# Altium schematic symbol library MyLibrary.SchLib: 71 symbols
Pins are listed as number, name and electrical type; pins without a type are passive.

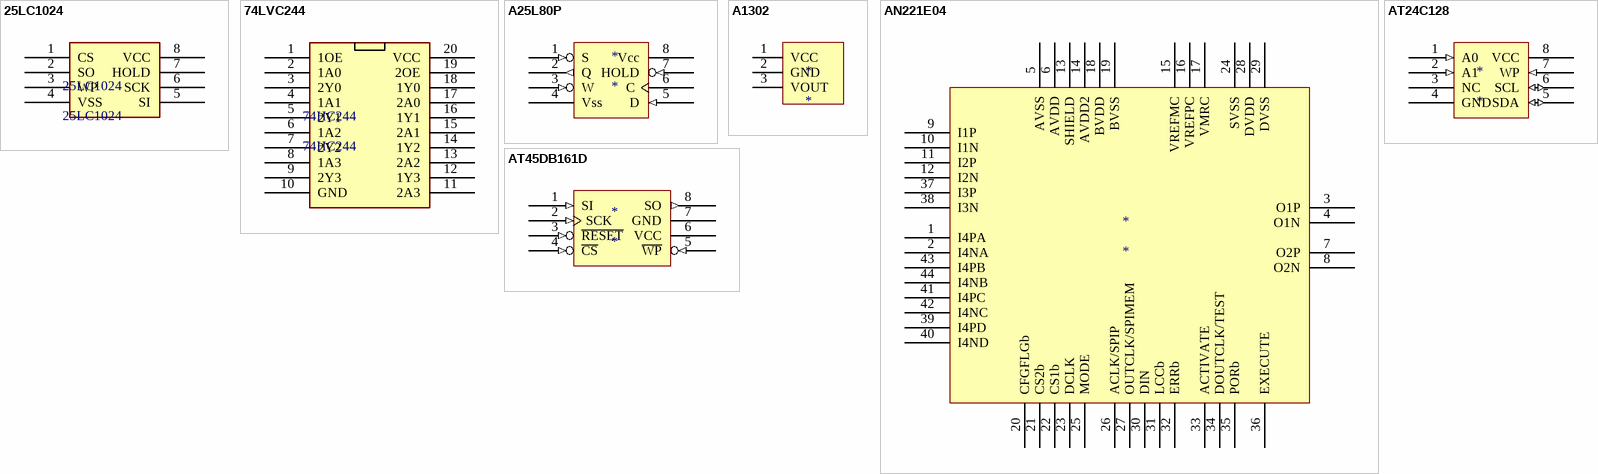
[diagram p0: symbols 25LC1024 to AT45DB161D]

## 25LC1024
designator 25LC1024
pins: 1 CS, 2 SO, 3 WP, 4 VSS, 5 SI, 6 SCK, 7 HOLD, 8 VCC

## 74LVC244
designator 74HC244, comment 74HC244
pins: 1 1OE, 2 1A0, 3 2Y0, 4 1A1, 5 2Y1, 6 1A2, 7 2Y2, 8 1A3, 9 2Y3, 10 GND, 11 2A3, 12 1Y3, 13 2A2, 14 1Y2, 15 2A1, 16 1Y1, 17 2A0, 18 1Y0, 19 2OE, 20 VCC

## A25L80P
designator *
footprint DIP-P8/E10
pins: 1 S (in), 2 Q (out), 3 W (in), 4 Vss (power), 5 D (in), 6 C, 7 HOLD (in), 8 Vcc (power)

## A1302
designator *
footprint A1302_UA_3Pin SIP
pins: 1 VCC, 2 GND (power), 3 VOUT (power)

## AN221E04
designator *
footprint QFP80P1320X1320X245-44N (QFP, 44-Leads, Body 13.2x13.2mm (max), Pitch 0.80mm, IPC Medium Density)
pins: 1 I4PA (power), 2 I4NA (power), 3 O1P (power), 4 O1N (power), 5 AVSS (power), 6 AVDD (power), 7 O2P (power), 8 O2N (power), 9 I1P (power), 10 I1N (power), 11 I2P (power), 12 I2N (power), 13 SHIELD (power), 14 AVDD2 (power), 15 VREFMC (power), 16 VREFPC (power), 17 VMRC (power), 18 BVDD (power), 19 BVSS (power), 20 CFGFLGb (power), 21 CS2b (power), 22 CS1b (power), 23 DCLK (power), 24 SVSS (power), 25 MODE (power), 26 ACLK/SPIP (power), 27 OUTCLK/SPIMEM (power), 28 DVDD (power), 29 DVSS (power), 30 DIN (power), 31 LCCb (power), 32 ERRb (power), 33 ACTIVATE (power), 34 DOUTCLK/TEST (power), 35 PORb (power), 36 EXECUTE (power), 37 I3P (power), 38 I3N (power), 39 I4PD (power), 40 I4ND (power), 41 I4PC (power), 42 I4NC (power), 43 I4PB (power), 44 I4NB (power)

## AT24C128
designator *
footprint DIP-P8/E10
pins: 1 A0 (in), 2 A1 (in), 3 NC (power), 4 GND (power), 5 SDA (io), 6 SCL (io), 7 WP (in), 8 VCC (power)

## AT45DB161D
designator *
footprint 8S1_L (8-Pin Small Outline Integrated Circuit 1.27 mm Pitch, IPC High Density)
pins: 1 SI (in), 2 SCK (in), 3 ~{RESET} (in), 4 ~{CS} (in), 5 ~{WP} (in), 6 VCC (power), 7 GND (power), 8 SO (out)

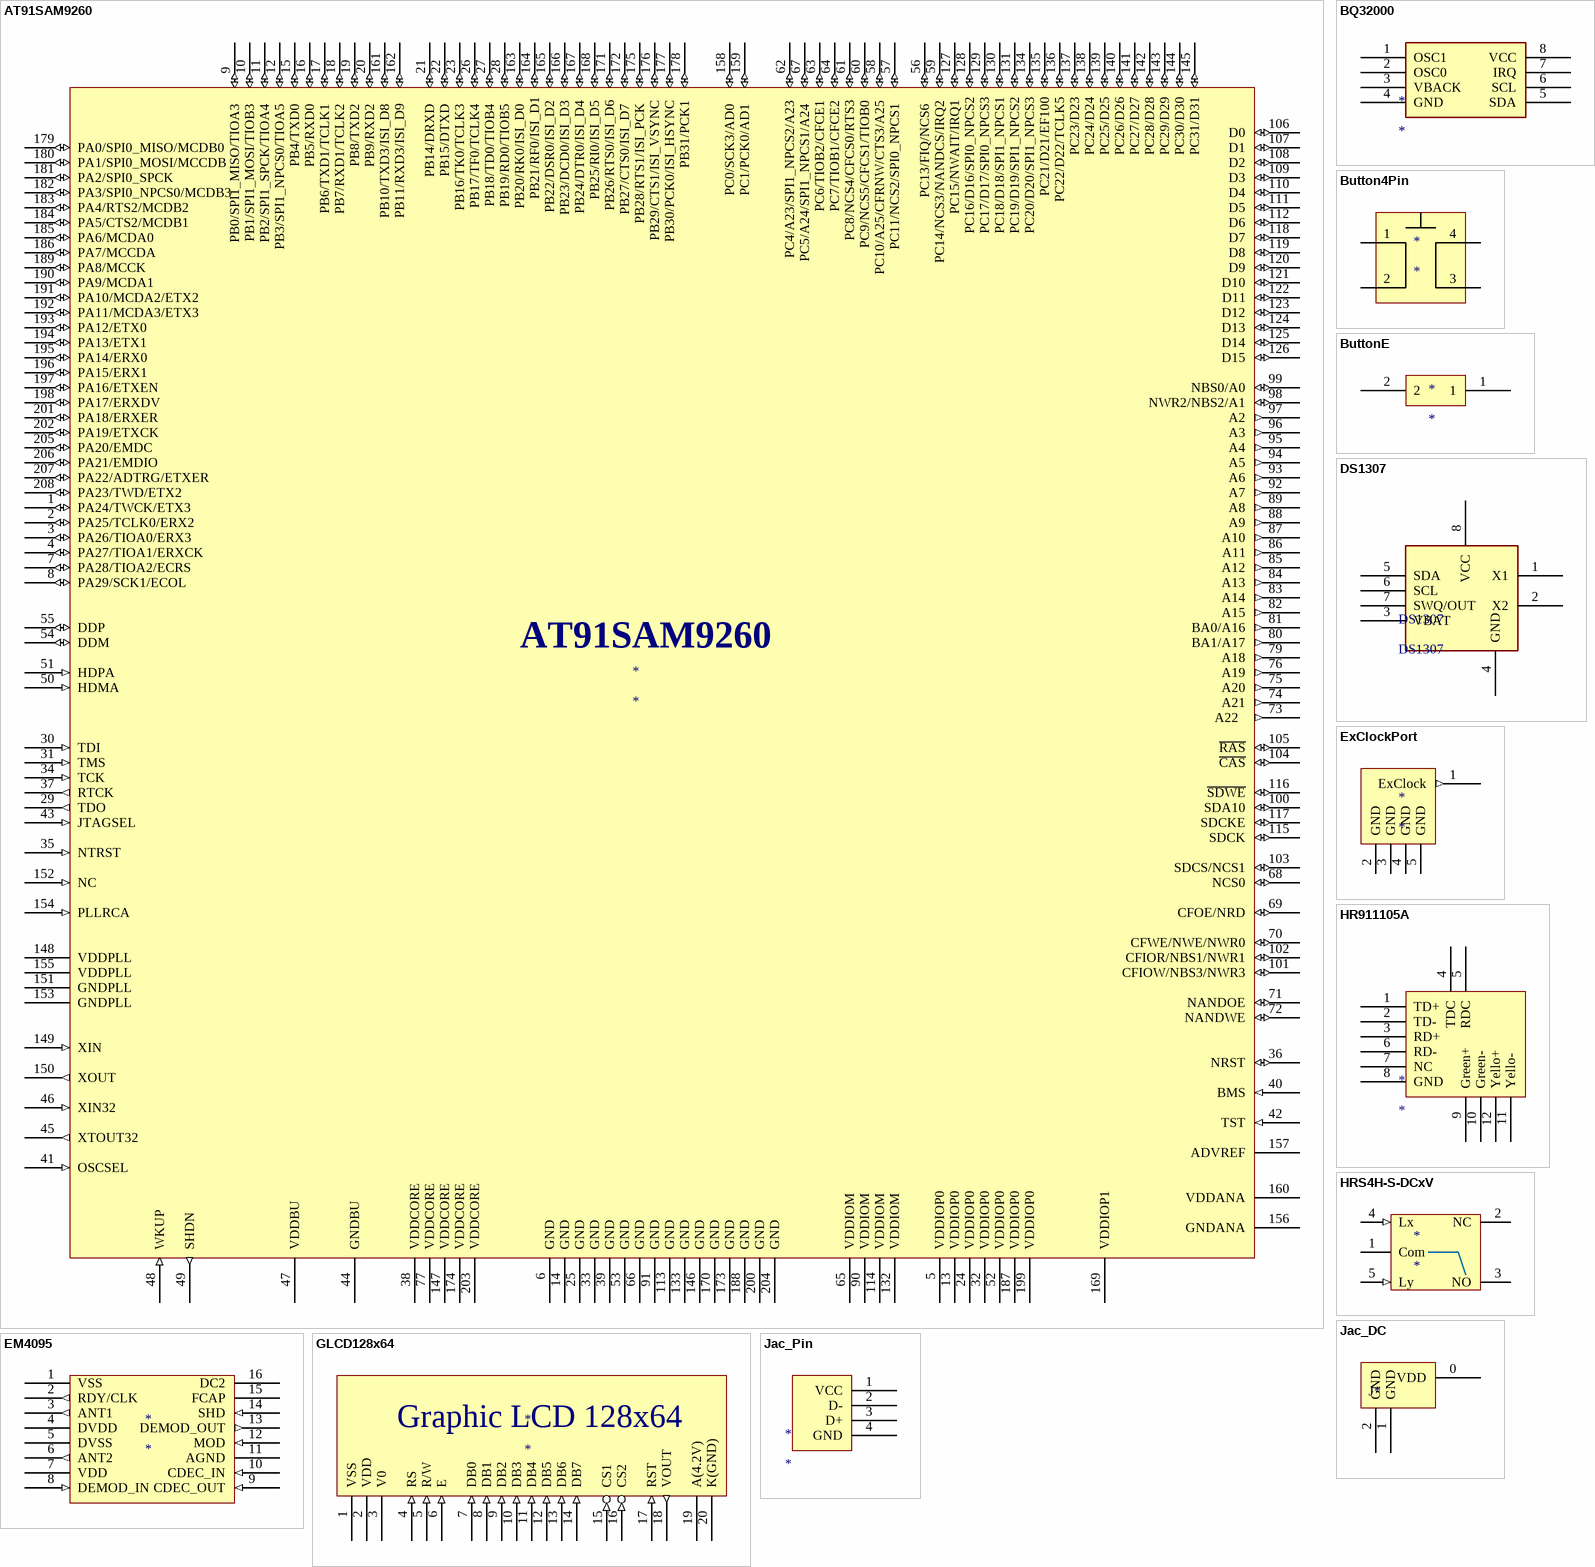
[diagram p1: symbols AT91SAM9260 to Jac_Pin]

## AT91SAM9260
designator *
footprint SQFP50P3120X3120X410-208N (SQFP, 208-Leads, Body 31.2x31.2mm (max), Pitch 0.50mm, IPC Medium Density)
pins: 1 PA24/TWCK/ETX3   (io), 2 PA25/TCLK0/ERX2   (io), 3 PA26/TIOA0/ERX3   (io), 4 PA27/TIOA1/ERXCK   (io), 5 VDDIOP0  (power), 6 GND  (power), 7 PA28/TIOA2/ECRS   (io), 8 PA29/SCK1/ECOL   (io), 9 PB0/SPI1_MISO/TIOA3   (io), 10 PB1/SPI1_MOSI/TIOB3   (io), 11 PB2/SPI1_SPCK/TIOA4   (io), 12 PB3/SPI1_NPCS0/TIOA5   (io), 13 VDDIOP0  (power), 14 GND  (power), 15 PB4/TXD0   (io), 16 PB5/RXD0   (io), 17 PB6/TXD1/TCLK1   (io), 18 PB7/RXD1/TCLK2   (io), 19 PB8/TXD2   (io), 20 PB9/RXD2   (io), 21 PB14/DRXD   (io), 22 PB15/DTXD   (io), 23 PB16/TK0/TCLK3   (io), 24 VDDIOP0  (power), 25 GND  (power), 26 PB17/TF0/TCLK4   (io), 27 PB18/TD0/TIOB4   (io), 28 PB19/RD0/TIOB5   (io), 29 TDO  (out), 30 TDI (in), 31 TMS (in), 32 VDDIOP0 (power), 33 GND (power), 34 TCK (in), 35 NTRST (in), 36 NRST (io), 37 RTCK (out), 38 VDDCORE (power), 39 GND (power), 40 BMS (in), 41 OSCSEL (in), 42 TST (in), 43 JTAGSEL (in), 44 GNDBU (power), 45 XTOUT32 (out), 46 XIN32 (in), 47 VDDBU (power), 48 WKUP (in), 49 SHDN (out), 50 HDMA (in), 51 HDPA (in), 52 VDDIOP0 (power), 53 GND (power), 54 DDM (io), 55 DDP (io), 56 PC13/FIQ/NCS6   (io), 57 PC11/NCS2/SPI0_NPCS1   (io), 58 PC10/A25/CFRNW/CTS3/A25  (io), 59 PC14/NCS3/NANDCS/IRQ2  (io), 60 PC9/NCS5/CFCS1/TIOB0  (io), 61 PC8/NCS4/CFCS0/RTS3  (io), 62 PC4/A23/SPI1_NPCS2/A23  (io), 63 PC6/TIOB2/CFCE1  (io), 64 PC7/TIOB1/CFCE2  (io), 65 VDDIOM (power), 66 GND (power), 67 PC5/A24/SPI1_NPCS1/A24   (io), 68 NCS0 (io), 69 CFOE/NRD (io), 70 CFWE/NWE/NWR0 (io), 71 NANDOE (io), 72 NANDWE (io), 73 A22   (out), 74 A21 (out), 75 A20 (out), 76 A19 (out), 77 VDDCORE (power), 79 A18 (out), 80 BA1/A17 (out), 81 BA0/A16 (out), 82 A15 (out), 83 A14 (out), 84 A13 (out), 85 A12 (out), 86 A11 (out), 87 A10 (out), 88 A9 (out), 89 A8 (out), 90 VDDIOM (power), 91 GND (power), 92 A7 (out), 93 A6 (out), 94 A5 (out), 95 A4 (out), 96 A3 (out), 97 A2 (out), 98 NWR2/NBS2/A1 (io), 99 NBS0/A0 (io), 100 SDA10 (io), 101 CFIOW/NBS3/NWR3 (io), 102 CFIOR/NBS1/NWR1 (io), 103 SDCS/NCS1 (io), 104 ~{CAS} (io), 105 ~{RAS} (io), 106 D0 (io), 107 D1 (io), 108 D2 (io), 109 D3 (io), 110 D4 (io), 111 D5 (io), 112 D6 (io), 113 GND (power), 114 VDDIOM (power), 115 SDCK (io), 116 ~{SDWE} (io), 117 SDCKE (io), 118 D7 (io), 119 D8 (io), 120 D9 (io), 121 D10 (io), 122 D11 (io), 123 D12 (io), 124 D13 (io), 125 D14 (io), 126 D15 (io), 127 PC15/NWAIT/IRQ1  (io), 128 PC16/D16/SPI0_NPCS2 (io), 129 PC17/D17/SPI0_NPCS3 (io), 130 PC18/D18/SPI1_NPCS1 (io), 131 PC19/D19/SPI1_NPCS2 (io), 132 VDDIOM (power), 133 GND (power), 134 PC20/D20/SPI1_NPCS3 (io), 135 PC21/D21/EF100 (io), 136 PC22/D22/TCLK5 (io), 137 PC23/D23 (io), 138 PC24/D24 (io), 139 PC25/D25 (io), 140 PC26/D26 (io), 141 PC27/D27 (io), 142 PC28/D28 (io), 143 PC29/D29 (io), 144 PC30/D30 (io), 145 PC31/D31 (io), 146 GND (power), 147 VDDCORE (power), 148 VDDPLL (power), 149 XIN   (in), 150 XOUT (out), 151 GNDPLL (power), 152 NC (in), 153 GNDPLL (power), 154 PLLRCA (in), 155 VDDPLL (power), 156 GNDANA (power), 157 ADVREF (power), 158 PC0/SCK3/AD0   (io), 159 PC1/PCK0/AD1   (io), 160 VDDANA (power), 161 PB10/TXD3/ISI_D8   (io), 162 PB11/RXD3/ISI_D9   (io), 163 PB20/RK0/ISI_D0   (io), 164 PB21/RF0/ISI_D1 (io), 165 PB22/DSR0/ISI_D2  (io), 166 PB23/DCD0/ISI_D3  (io), 167 PB24/DTR0/ISI_D4  (io), 168 PB25/RI0/ISI_D5  (io), 169 VDDIOP1 (power), 170 GND (power), 171 PB26/RTS0/ISI_D6  (io), 172 PB27/CTS0/ISI_D7   (io), 173 GND (power), 174 VDDCORE (power), 175 PB28/RTS1/ISI_PCK   (io), 176 PB29/CTS1/ISI_VSYNC  (io), 177 PB30/PCK0/ISI_HSYNC  (io), 178 PB31/PCK1  (io), 179 PA0/SPI0_MISO/MCDB0   (io), 180 PA1/SPI0_MOSI/MCCDB   (io), 181 PA2/SPI0_SPCK   (io), 182 PA3/SPI0_NPCS0/MCDB3  (io), 183 PA4/RTS2/MCDB2  (io), 184 PA5/CTS2/MCDB1   (io), 185 PA6/MCDA0   (io), 186 PA7/MCCDA  (io), 187 VDDIOP0 (power), 188 GND (power), 189 PA8/MCCK   (io), 190 PA9/MCDA1   (io), 191 PA10/MCDA2/ETX2    (io), 192 PA11/MCDA3/ETX3  (io), 193 PA12/ETX0   (io), 194 PA13/ETX1   (io), 195 PA14/ERX0   (io), 196 PA15/ERX1  (io), 197 PA16/ETXEN  (io), 198 PA17/ERXDV  (io), 199 VDDIOP0 (power), 200 GND (power), 201 PA18/ERXER   (io), 202 PA19/ETXCK  (io), 203 VDDCORE (power), 204 GND (power), 205 PA20/EMDC   (io), 206 PA21/EMDIO (io), 207 PA22/ADTRG/ETXER (io), 208 PA23/TWD/ETX2   (io)

## BQ32000
designator *
pins: 1 OSC1, 2 OSC0, 3 VBACK, 4 GND, 5 SDA, 6 SCL, 7 IRQ, 8 VCC

## Button4Pin
designator *
footprint Button4pin
pins: 1 (power), 2 (power), 3 (power), 4 (power)

## ButtonE
designator *
footprint ButtonE
pins: 1, 2

## DS1307
designator DS1307
pins: 1 X1, 2 X2, 3 VBAT, 4 GND, 5 SDA, 6 SCL, 7 SWQ/OUT, 8 VCC

## EM4095
designator *
footprint NSO16_M (16-Pin Small Outline Integrated Circuit 1.27 mm Pitch, IPC Low Density)
pins: 1 VSS (power), 2 RDY/CLK (out), 3 ANT1 (out), 4 DVDD (power), 5 DVSS (power), 6 ANT2 (out), 7 VDD (power), 8 DEMOD_IN (in), 9 CDEC_OUT (in), 10 CDEC_IN (in), 11 AGND (power), 12 MOD (in), 13 DEMOD_OUT (out), 14 SHD (in), 15 FCAP (power), 16 DC2 (power)

## ExClockPort
designator *
pins: 1 ExClock (out), 2 GND (power), 3 GND (power), 4 GND (power), 5 GND (power)

## GLCD128x64
designator *
footprint GLCD(20pin)
footprint GLCD(40pin)
pins: 1 VSS (power), 2 VDD (power), 3 V0 (power), 4 RS (in), 5 R/W (in), 6 E (in), 7 DB0 (in), 8 DB1 (in), 9 DB2 (in), 10 DB3 (in), 11 DB4 (in), 12 DB5 (in), 13 DB6 (in), 14 DB7 (in), 15 CS1 (in), 16 CS2 (in), 17 RST (in), 18 VOUT (out), 19 A(4.2V) (power), 20 K(GND) (power)
text: Graphic LCD 128x64

## HR911105A
designator *
footprint HR911105A (RJ45_LED)
pins: 1 TD+ (power), 2 TD- (power), 3 RD+ (power), 4 TDC (power), 5 RDC (power), 6 RD- (power), 7 NC (power), 8 GND (power), 9 Green+ (power), 10 Green- (power), 11 Yello- (power), 12 Yello+ (power)

## HRS4H-S-DCxV
designator *
footprint HRS4H (Relay)
pins: 1 Com (power), 2 NC (power), 3 NO (power), 4 Lx (in), 5 Ly (in)

## Jac_DC
designator J*  (value not drawn)
footprint Jac_DC
pins: 0 VDD (power), 1 GND (power), 2 GND (power)

## Jac_Pin
designator *
footprint Jac_Pin
pins: 1 VCC (power), 2 D- (power), 3 D+, 4 GND

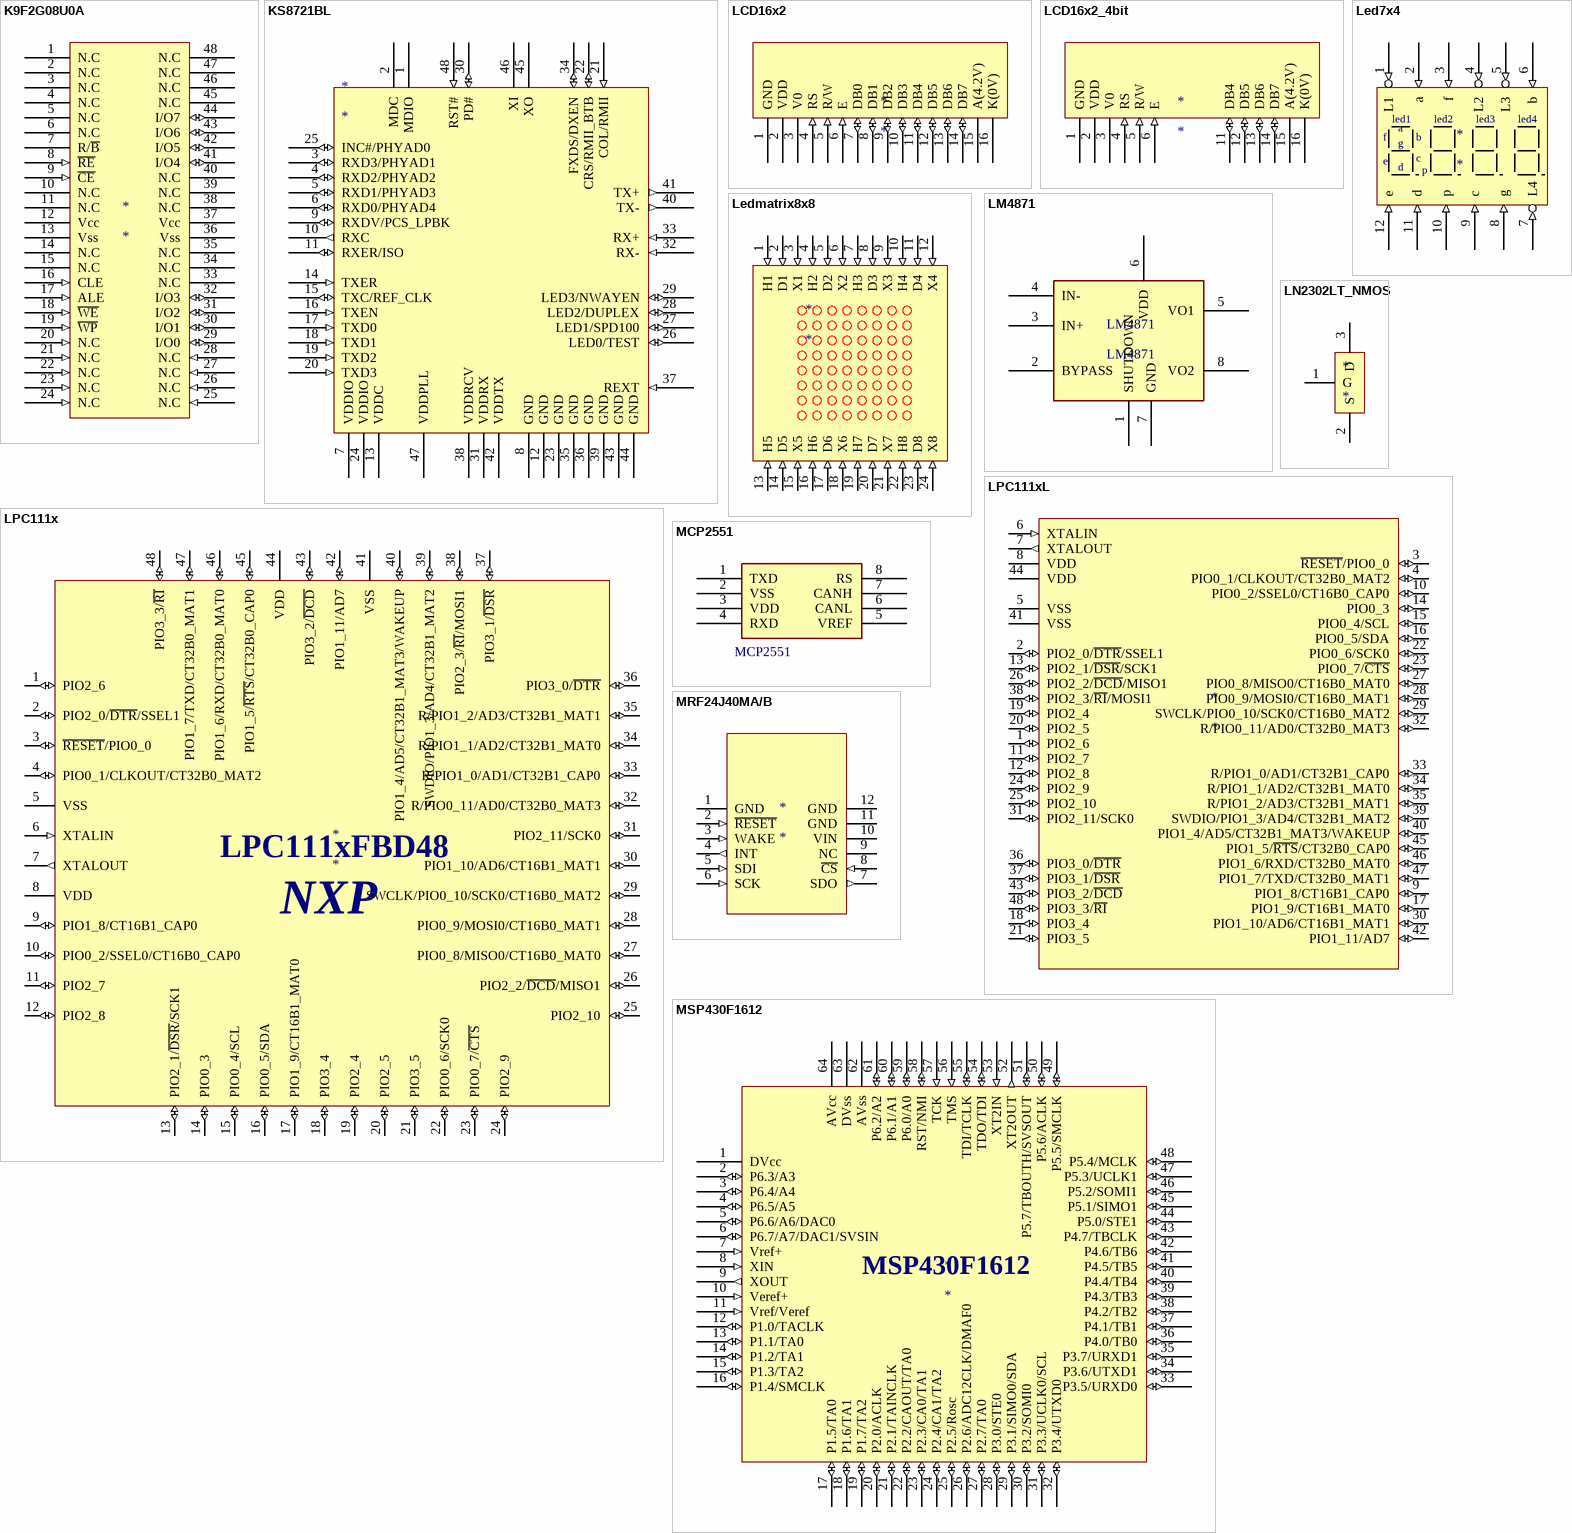
[diagram p2: symbols K9F2G08U0A to MSP430F1612]

## K9F2G08U0A
designator *
footprint TSSOP50P2000X120-48N (TSSOP, 48-Leads, Body 12.4x18.4mm (max), Pitch 0.50mm, IPC Medium Density)
pins: 1 N.C (power), 2 N.C (power), 3 N.C (power), 4 N.C (power), 5 N.C (power), 6 N.C (power), 7 R/~{B} (power), 8 ~{RE} (in), 9 ~{CE} (in), 10 N.C (power), 11 N.C (power), 12 Vcc (power), 13 Vss (power), 14 N.C (power), 15 N.C (power), 16 CLE (in), 17 ALE (in), 18 ~{WE} (in), 19 ~{WP} (in), 20 N.C (in), 21 N.C (in), 22 N.C (in), 23 N.C (in), 24 N.C (in), 25 N.C (in), 26 N.C (in), 27 N.C (in), 28 N.C (in), 29 I/O0 (io), 30 I/O1 (io), 31 I/O2 (io), 32 I/O3 (io), 33 N.C (power), 34 N.C (power), 35 N.C (power), 36 Vss (power), 37 Vcc (power), 38 N.C (power), 39 N.C (power), 40 N.C (power), 41 I/O4 (io), 42 I/O5 (io), 43 I/O6 (io), 44 I/O7 (io), 45 N.C (power), 46 N.C (power), 47 N.C (power), 48 N.C (power)

## KS8721BL
designator *
footprint TSQFP50P900X900-48L (Thin QFP, 48-Leads, Body 7x7mm, Pitch 0.5mm, IPC High Density)
pins: 1 MDIO (power), 2 MDC (power), 3 RXD3/PHYAD1 (io), 4 RXD2/PHYAD2 (io), 5 RXD1/PHYAD3 (io), 6 RXD0/PHYAD4 (io), 7 VDDIO (power), 8 GND (power), 9 RXDV/PCS_LPBK (io), 10 RXC (out), 11 RXER/ISO (io), 12 GND (power), 13 VDDC (power), 14 TXER (in), 15 TXC/REF_CLK (io), 16 TXEN (in), 17 TXD0 (in), 18 TXD1 (in), 19 TXD2 (in), 20 TXD3 (in), 21 COL/RMII (in), 22 CRS/RMII_BTB (io), 23 GND (power), 24 VDDIO (power), 25 INC#/PHYAD0 (io), 26 LED0/TEST (io), 27 LED1/SPD100 (io), 28 LED2/DUPLEX (io), 29 LED3/NWAYEN (io), 30 PD# (io), 31 VDDRX (power), 32 RX- (in), 33 RX+ (in), 34 FXDS/DXEN (io), 35 GND (power), 36 GND (power), 37 REXT (in), 38 VDDRCV (power), 39 GND (power), 40 TX- (out), 41 TX+ (out), 42 VDDTX (power), 43 GND (power), 44 GND (power), 45 XO (power), 46 XI (power), 47 VDDPLL (power), 48 RST# (in)

## LCD16x2
designator *
footprint LCD16x2
pins: 1 GND (power), 2 VDD (power), 3 V0 (power), 4 RS (in), 5 R/W (in), 6 E (in), 7 DB0 (io), 8 DB1 (io), 9 DB2 (io), 10 DB3 (io), 11 DB4 (io), 12 DB5 (io), 13 DB6 (io), 14 DB7 (io), 15 A(4.2V) (power), 16 K(0V) (power)

## LCD16x2_4bit
designator *
footprint LCD16x2_4bit
pins: 1 GND (power), 2 VDD (power), 3 V0 (power), 4 RS (in), 5 R/W (in), 6 E (in), 11 DB4 (io), 12 DB5 (io), 13 DB6 (io), 14 DB7 (io), 15 A(4.2V) (power), 16 K(0V) (power)

## Led7x4
designator *
footprint Led7x4
pins: 1 L1 (in), 2 a (in), 3 f (in), 4 L2 (in), 5 L3 (in), 6 b (in), 7 L4 (in), 8 g (in), 9 c (in), 10 p (in), 11 d (in), 12 e (in)
text: led1; led2; led3; led4

## Ledmatrix8x8
designator *
footprint Ledmatrix8x8
pins: 1 H1 (in), 2 D1 (in), 3 X1 (in), 4 H2 (in), 5 D2 (in), 6 X2 (in), 7 H3 (in), 8 D3 (in), 9 X3 (in), 10 H4 (in), 11 D4 (in), 12 X4 (in), 13 H5 (in), 14 D5 (in), 15 X5 (in), 16 H6 (in), 17 D6 (in), 18 X6 (in), 19 H7 (in), 20 D7 (in), 21 X7 (in), 22 H8 (in), 23 D8 (in), 24 X8 (in)

## LM4871
designator LM4871
pins: 1 SHUTDOWN, 2 BYPASS, 3 IN+, 4 IN-, 5 VO1, 6 VDD, 7 GND, 8 VO2

## LN2302LT_NMOS
designator *
footprint SOT95P265X110-3N (SOT23, 3-Leads, Body 3.0x2.7mm (max), Pitch 0.95mm, IPC Medium Density)
pins: 1 G (power), 2 S (power), 3 D (power)

## LPC111x
designator *
footprint TSQFP50P920X920X120-48L (TSQFP, 48-Leads, Body 9.2x9.2mm (max), Pitch 0.50mm, IPC High Density)
pins: 1 PIO2_6 (io), 2 PIO2_0/~{DTR}/SSEL1 (io), 3 ~{RESET}/PIO0_0 (io), 4 PIO0_1/CLKOUT/CT32B0_MAT2 (io), 5 VSS (power), 6 XTALIN (in), 7 XTALOUT (out), 8 VDD (power), 9 PIO1_8/CT16B1_CAP0 (io), 10 PIO0_2/SSEL0/CT16B0_CAP0 (io), 11 PIO2_7 (io), 12 PIO2_8 (io), 13 PIO2_1/~{DSR}/SCK1 (io), 14 PIO0_3 (io), 15 PIO0_4/SCL (io), 16 PIO0_5/SDA (io), 17 PIO1_9/CT16B1_MAT0 (io), 18 PIO3_4 (io), 19 PIO2_4 (io), 20 PIO2_5 (io), 21 PIO3_5 (io), 22 PIO0_6/SCK0 (io), 23 PIO0_7/~{CTS} (io), 24 PIO2_9 (io), 25 PIO2_10 (io), 26 PIO2_2/~{DCD}/MISO1 (io), 27 PIO0_8/MISO0/CT16B0_MAT0 (io), 28 PIO0_9/MOSI0/CT16B0_MAT1 (io), 29 SWCLK/PIO0_10/SCK0/CT16B0_MAT2 (io), 30 PIO1_10/AD6/CT16B1_MAT1 (io), 31 PIO2_11/SCK0 (io), 32 R/PIO0_11/AD0/CT32B0_MAT3 (io), 33 R/PIO1_0/AD1/CT32B1_CAP0 (io), 34 R/PIO1_1/AD2/CT32B1_MAT0 (io), 35 R/PIO1_2/AD3/CT32B1_MAT1 (io), 36 PIO3_0/~{DTR} (io), 37 PIO3_1/~{DSR} (io), 38 PIO2_3/~{RI}/MOSI1 (io), 39 SWDIO/PIO1_3/AD4/CT32B1_MAT2 (io), 40 PIO1_4/AD5/CT32B1_MAT3/WAKEUP (io), 41 VSS (power), 42 PIO1_11/AD7 (io), 43 PIO3_2/~{DCD} (io), 44 VDD (power), 45 PIO1_5/~{RTS}/CT32B0_CAP0 (io), 46 PIO1_6/RXD/CT32B0_MAT0 (io), 47 PIO1_7/TXD/CT32B0_MAT1 (io), 48 PIO3_3/~{RI} (io)
text: LPC111xFBD48; NXP

## LPC111xL
designator *
footprint TSQFP50P920X920X120-48L (TSQFP, 48-Leads, Body 9.2x9.2mm (max), Pitch 0.50mm, IPC High Density)
pins: 1 PIO2_6 (io), 2 PIO2_0/~{DTR}/SSEL1 (io), 3 ~{RESET}/PIO0_0 (io), 4 PIO0_1/CLKOUT/CT32B0_MAT2 (io), 5 VSS (power), 6 XTALIN (in), 7 XTALOUT (out), 8 VDD (power), 9 PIO1_8/CT16B1_CAP0 (io), 10 PIO0_2/SSEL0/CT16B0_CAP0 (io), 11 PIO2_7 (io), 12 PIO2_8 (io), 13 PIO2_1/~{DSR}/SCK1 (io), 14 PIO0_3 (io), 15 PIO0_4/SCL (io), 16 PIO0_5/SDA (io), 17 PIO1_9/CT16B1_MAT0 (io), 18 PIO3_4 (io), 19 PIO2_4 (io), 20 PIO2_5 (io), 21 PIO3_5 (io), 22 PIO0_6/SCK0 (io), 23 PIO0_7/~{CTS} (io), 24 PIO2_9 (io), 25 PIO2_10 (io), 26 PIO2_2/~{DCD}/MISO1 (io), 27 PIO0_8/MISO0/CT16B0_MAT0 (io), 28 PIO0_9/MOSI0/CT16B0_MAT1 (io), 29 SWCLK/PIO0_10/SCK0/CT16B0_MAT2 (io), 30 PIO1_10/AD6/CT16B1_MAT1 (io), 31 PIO2_11/SCK0 (io), 32 R/PIO0_11/AD0/CT32B0_MAT3 (io), 33 R/PIO1_0/AD1/CT32B1_CAP0 (io), 34 R/PIO1_1/AD2/CT32B1_MAT0 (io), 35 R/PIO1_2/AD3/CT32B1_MAT1 (io), 36 PIO3_0/~{DTR} (io), 37 PIO3_1/~{DSR} (io), 38 PIO2_3/~{RI}/MOSI1 (io), 39 SWDIO/PIO1_3/AD4/CT32B1_MAT2 (io), 40 PIO1_4/AD5/CT32B1_MAT3/WAKEUP (io), 41 VSS (power), 42 PIO1_11/AD7 (io), 43 PIO3_2/~{DCD} (io), 44 VDD (power), 45 PIO1_5/~{RTS}/CT32B0_CAP0 (io), 46 PIO1_6/RXD/CT32B0_MAT0 (io), 47 PIO1_7/TXD/CT32B0_MAT1 (io), 48 PIO3_3/~{RI} (io)

## MCP2551
designator MCP2551  (value not drawn)
pins: 1 TXD, 2 VSS, 3 VDD, 4 RXD, 5 VREF, 6 CANL, 7 CANH, 8 RS

## MRF24J40MA/B
designator *
footprint MRF24J40MA/B (RF module)
pins: 1 GND (power), 2 ~{RESET} (in), 3 WAKE (in), 4 INT (out), 5 SDI (in), 6 SCK (in), 7 SDO (out), 8 ~{CS} (in), 9 NC (power), 10 VIN (power), 11 GND (power), 12 GND (power)

## MSP430F1612
designator *
footprint TSQFP50P1220X1220X160-64N (TSQFP, 64-Leads, Body 12.2x12.2mm (max), Pitch 0.50mm, IPC Medium Density)
pins: 1 DVcc (power), 2 P6.3/A3 (io), 3 P6.4/A4 (io), 4 P6.5/A5 (io), 5 P6.6/A6/DAC0 (io), 6 P6.7/A7/DAC1/SVSIN (io), 7 Vref+ (in), 8 XIN (in), 9 XOUT (out), 10 Veref+ (in), 11 Vref/Veref (in), 12 P1.0/TACLK (io), 13 P1.1/TA0 (io), 14 P1.2/TA1 (io), 15 P1.3/TA2 (io), 16 P1.4/SMCLK (io), 17 P1.5/TA0 (io), 18 P1.6/TA1 (io), 19 P1.7/TA2 (io), 20 P2.0/ACLK (io), 21 P2.1/TAINCLK (io), 22 P2.2/CAOUT/TA0 (io), 23 P2.3/CA0/TA1 (io), 24 P2.4/CA1/TA2 (io), 25 P2.5/Rosc (io), 26 P2.6/ADC12CLK/DMAF0 (io), 27 P2.7/TA0 (io), 28 P3.0/STE0 (io), 29 P3.1/SIMO0/SDA (io), 30 P3.2/SOMI0 (io), 31 P3.3/UCLK0/SCL (io), 32 P3.4/UTXD0 (io), 33 P3.5/URXD0 (io), 34 P3.6/UTXD1 (io), 35 P3.7/URXD1 (io), 36 P4.0/TB0 (io), 37 P4.1/TB1 (io), 38 P4.2/TB2 (io), 39 P4.3/TB3 (io), 40 P4.4/TB4 (io), 41 P4.5/TB5 (io), 42 P4.6/TB6 (io), 43 P4.7/TBCLK (io), 44 P5.0/STE1 (io), 45 P5.1/SIMO1 (io), 46 P5.2/SOMI1 (io), 47 P5.3/UCLK1 (io), 48 P5.4/MCLK (io), 49 P5.5/SMCLK (io), 50 P5.6/ACLK (io), 51 P5.7/TBOUTH/SVSOUT (io), 52 XT2OUT (out), 53 XT2IN (in), 54 TDO/TDI (io), 55 TDI/TCLK (io), 56 TMS (in), 57 TCK (in), 58 RST/NMI (io), 59 P6.0/A0 (io), 60 P6.1/A1 (io), 61 P6.2/A2 (io), 62 AVss (power), 63 DVss (power), 64 AVcc (power)

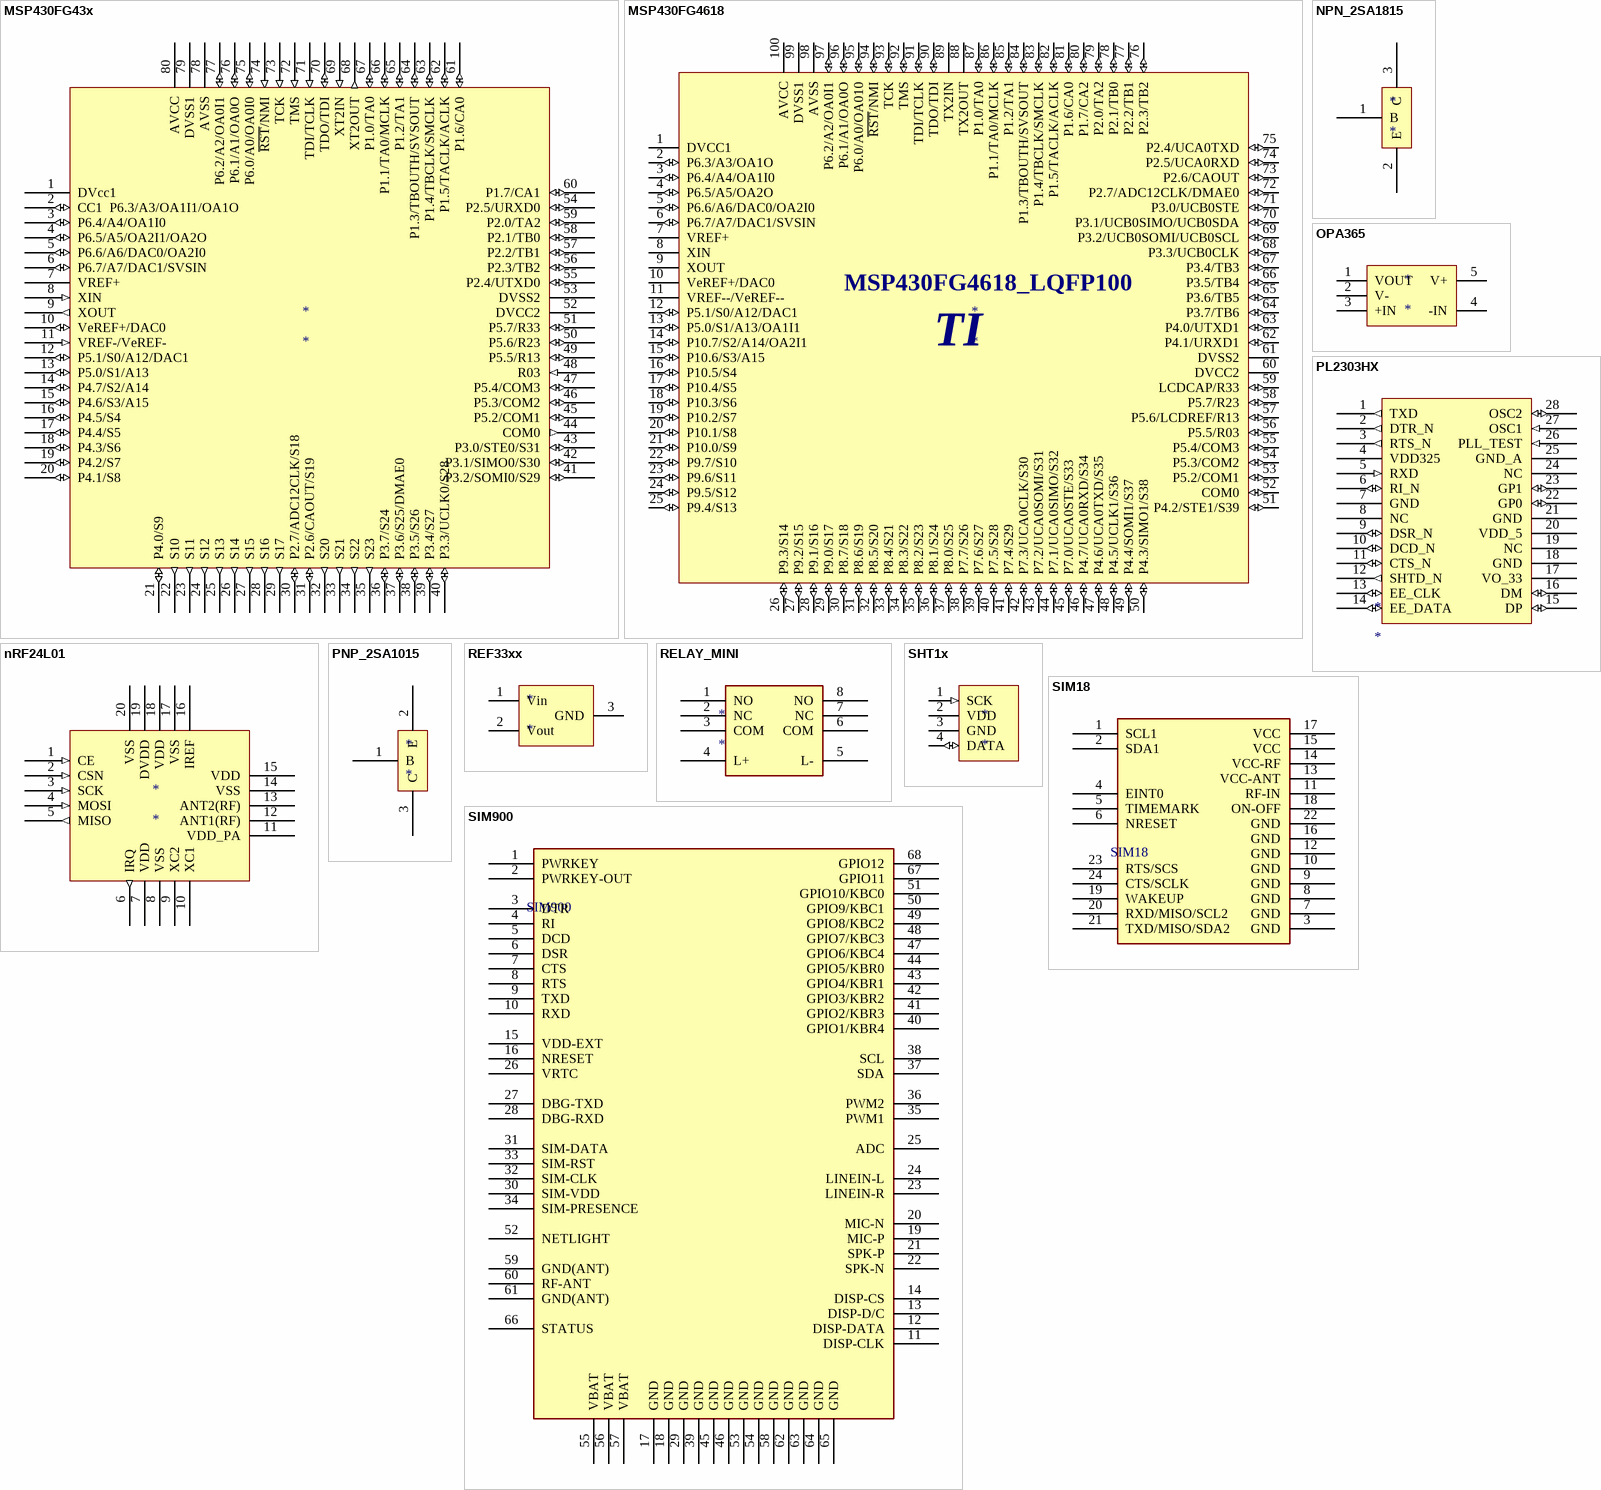
[diagram p3: symbols MSP430FG43x to SIM900]

## MSP430FG43x
designator *
footprint TSQFP50P1400X1400X160-80N (TSQFP, 80-Leads, Body 14.2x14.2mm (max), Pitch 0.50mm, IPC Medium Density)
pins: 1 DVcc1 (power), 2 CC1  P6.3/A3/OA1I1/OA1O (io), 3 P6.4/A4/OA1I0 (io), 4 P6.5/A5/OA2I1/OA2O (io), 5 P6.6/A6/DAC0/OA2I0 (io), 6 P6.7/A7/DAC1/SVSIN (io), 7 VREF+ (power), 8 XIN (in), 9 XOUT (out), 10 VeREF+/DAC0 (io), 11 VREF-/VeREF- (in), 12 P5.1/S0/A12/DAC1 (io), 13 P5.0/S1/A13 (io), 14 P4.7/S2/A14 (io), 15 P4.6/S3/A15 (io), 16 P4.5/S4 (io), 17 P4.4/S5 (io), 18 P4.3/S6 (io), 19 P4.2/S7 (io), 20 P4.1/S8 (io), 21 P4.0/S9 (io), 22 S10 (out), 23 S11 (out), 24 S12 (out), 25 S13 (out), 26 S14 (out), 27 S15 (out), 28 S16 (out), 29 S17 (out), 30 P2.7/ADC12CLK/S18 (io), 31 P2.6/CAOUT/S19 (io), 32 S20 (out), 33 S21 (out), 34 S22 (out), 35 S23 (out), 36 P3.7/S24 (io), 37 P3.6/S25/DMAE0 (io), 38 P3.5/S26 (io), 39 P3.4/S27 (io), 40 P3.3/UCLK0/S28 (io), 41 P3.2/SOMI0/S29 (io), 42 P3.1/SIMO0/S30 (io), 43 P3.0/STE0/S31 (io), 44 COM0 (out), 45 P5.2/COM1 (io), 46 P5.3/COM2 (io), 47 P5.4/COM3 (io), 48 R03 (in), 49 P5.5/R13 (io), 50 P5.6/R23 (io), 51 P5.7/R33 (io), 52 DVCC2 (power), 53 DVSS2 (power), 54 P2.5/URXD0 (io), 55 P2.4/UTXD0 (io), 56 P2.3/TB2 (io), 57 P2.2/TB1 (io), 58 P2.1/TB0 (io), 59 P2.0/TA2 (io), 60 P1.7/CA1 (io), 61 P1.6/CA0 (io), 62 P1.5/TACLK/ACLK (io), 63 P1.4/TBCLK/SMCLK (io), 64 P1.3/TBOUTH/SVSOUT (io), 65 P1.2/TA1 (io), 66 P1.1/TA0/MCLK (io), 67 P1.0/TA0 (io), 68 XT2OUT (out), 69 XT2IN (in), 70 TDO/TDI (io), 71 TDI/TCLK (in), 72 TMS (in), 73 TCK (in), 74 ~{RST}/NMI (in), 75 P6.0/A0/OA0I0 (io), 76 P6.1/A1/OA0O (io), 77 P6.2/A2/OA0I1 (io), 78 AVSS (power), 79 DVSS1 (power), 80 AVCC (power)

## MSP430FG4618
designator *
footprint TSQFP50P1600X1600X145-100L (TSQFP, 100-Leads, Body 16.2x16.2mm (max), Pitch 0.50mm, IPC High Density)
pins: 1 DVCC1 (power), 2 P6.3/A3/OA1O (io), 3 P6.4/A4/OA1I0 (io), 4 P6.5/A5/OA2O (io), 5 P6.6/A6/DAC0/OA2I0 (io), 6 P6.7/A7/DAC1/SVSIN (io), 7 VREF+ (power), 8 XIN (power), 9 XOUT (power), 10 VeREF+/DAC0 (power), 11 VREF--/VeREF-- (power), 12 P5.1/S0/A12/DAC1 (io), 13 P5.0/S1/A13/OA1I1 (io), 14 P10.7/S2/A14/OA2I1 (io), 15 P10.6/S3/A15 (io), 16 P10.5/S4 (io), 17 P10.4/S5 (io), 18 P10.3/S6 (io), 19 P10.2/S7 (io), 20 P10.1/S8 (io), 21 P10.0/S9 (io), 22 P9.7/S10 (io), 23 P9.6/S11 (io), 24 P9.5/S12 (io), 25 P9.4/S13 (io), 26 P9.3/S14 (io), 27 P9.2/S15 (io), 28 P9.1/S16 (io), 29 P9.0/S17 (io), 30 P8.7/S18 (io), 31 P8.6/S19 (io), 32 P8.5/S20 (io), 33 P8.4/S21 (io), 34 P8.3/S22 (io), 35 P8.2/S23 (io), 36 P8.1/S24 (io), 37 P8.0/S25 (io), 38 P7.7/S26 (io), 39 P7.6/S27 (io), 40 P7.5/S28 (io), 41 P7.4/S29 (io), 42 P7.3/UCA0CLK/S30 (io), 43 P7.2/UCA0SOMI/S31 (io), 44 P7.1/UCA0SIMO/S32 (io), 45 P7.0/UCA0STE/S33 (io), 46 P4.7/UCA0RXD/S34 (io), 47 P4.6/UCA0TXD/S35 (io), 48 P4.5/UCLK1/S36 (io), 49 P4.4/SOMI1/S37 (io), 50 P4.3/SIMO1/S38 (io), 51 P4.2/STE1/S39 (io), 52 COM0 (io), 53 P5.2/COM1 (io), 54 P5.3/COM2 (io), 55 P5.4/COM3 (io), 56 P5.5/R03 (io), 57 P5.6/LCDREF/R13 (io), 58 P5.7/R23 (io), 59 LCDCAP/R33 (io), 60 DVCC2 (power), 61 DVSS2 (power), 62 P4.1/URXD1 (io), 63 P4.0/UTXD1 (io), 64 P3.7/TB6 (io), 65 P3.6/TB5 (io), 66 P3.5/TB4 (io), 67 P3.4/TB3 (io), 68 P3.3/UCB0CLK (io), 69 P3.2/UCB0SOMI/UCB0SCL (io), 70 P3.1/UCB0SIMO/UCB0SDA (io), 71 P3.0/UCB0STE (io), 72 P2.7/ADC12CLK/DMAE0 (io), 73 P2.6/CAOUT (io), 74 P2.5/UCA0RXD (io), 75 P2.4/UCA0TXD (io), 76 P2.3/TB2 (io), 77 P2.2/TB1 (io), 78 P2.1/TB0 (io), 79 P2.0/TA2 (io), 80 P1.7/CA2 (io), 81 P1.6/CA0 (io), 82 P1.5/TACLK/ACLK (io), 83 P1.4/TBCLK/SMCLK (io), 84 P1.3/TBOUTH/SVSOUT (io), 85 P1.2/TA1 (io), 86 P1.1/TA0/MCLK (io), 87 P1.0/TA0 (io), 88 TX2OUT (power), 89 TX2IN (power), 90 TDO/TDI (io), 91 TDI/TCLK (io), 92 TMS (io), 93 TCK (io), 94 ~{RST}/NMI (io), 95 P6.0/A0/OA010 (io), 96 P6.1/A1/OA0O (io), 97 P6.2/A2/OA0I1 (io), 98 AVSS (power), 99 DVSS1 (power), 100 AVCC (power)
text: MSP430FG4618_LQFP100; TI

## NPN_2SA1815
designator *
footprint SOT23Trans (SOT23, 3-Leads, Body 3.0x2.6mm (max), Pitch 0.95mm, IPC Medium Density)
pins: 1 B (power), 2 E (power), 3 C (power)

## nRF24L01
designator *
footprint QFN50P400X400X80-20M (QFN, 20-Leads, Body 4.2x4.2mm (max), Pitch 0.50mm, IPC Low Density)
pins: 1 CE (in), 2 CSN (in), 3 SCK (in), 4 MOSI (in), 5 MISO (out), 6 IRQ (out), 7 VDD (power), 8 VSS (power), 9 XC2 (hiz), 10 XC1 (hiz), 11 VDD_PA (power), 12 ANT1(RF) (power), 13 ANT2(RF) (power), 14 VSS (power), 15 VDD (power), 16 IREF (power), 17 VSS (power), 18 VDD (power), 19 DVDD (power), 20 VSS (power)

## OPA365
designator *
footprint SOT23_5 (SOT23, 5-Leads, Body 3.0x3.0mm (max), Pitch 0.95mm, IPC Medium Density)
pins: 1 VOUT (power), 2 V- (power), 3 +IN (power), 4 -IN (power), 5 V+ (power)

## PL2303HX
designator *
footprint SSOP28_HD (SOP, 28-Leads, Body 10,5x5,6mm (max), Pitch 0,65mm, IPC High Density)
pins: 1 TXD (out), 2 DTR_N (out), 3 RTS_N (out), 4 VDD325 (power), 5 RXD (in), 6 RI_N (io), 7 GND (power), 8 NC (power), 9 DSR_N (io), 10 DCD_N (io), 11 CTS_N (io), 12 SHTD_N (out), 13 EE_CLK (io), 14 EE_DATA (io), 15 DP (io), 16 DM (io), 17 VO_33 (power), 18 GND (power), 19 NC (power), 20 VDD_5 (power), 21 GND (power), 22 GP0 (io), 23 GP1 (io), 24 NC (power), 25 GND_A (power), 26 PLL_TEST (in), 27 OSC1 (in), 28 OSC2 (io)

## PNP_2SA1015
designator *
footprint SOT23Trans (SOT23, 3-Leads, Body 3.0x2.6mm (max), Pitch 0.95mm, IPC Medium Density)
pins: 1 B (power), 2 E (power), 3 C (power)

## REF33xx
designator *
footprint SOT95P265X110-3N (SOT23, 3-Leads, Body 3.0x2.7mm (max), Pitch 0.95mm, IPC Medium Density)
pins: 1 Vin (power), 2 Vout (power), 3 GND (power)

## RELAY_MINI
designator *
footprint RELAY_MINI - duplicate
pins: 1 NO, 2 NC, 3 COM, 4 L+, 5 L-, 6 COM, 7 NC, 8 NO

## SHT1x
designator *
footprint SHT1x (Temperature and humidity sensor)
pins: 1 SCK (in), 2 VDD (power), 3 GND (power), 4 DATA (io)

## SIM18
designator SIM18  (value not drawn)
pins: 1 SCL1, 2 SDA1, 3 GND, 4 EINT0, 5 TIMEMARK, 6 NRESET, 7 GND, 8 GND, 9 GND, 10 GND, 11 RF-IN, 12 GND, 13 VCC-ANT, 14 VCC-RF, 15 VCC, 16 GND, 17 VCC, 18 ON-OFF, 19 WAKEUP, 20 RXD/MISO/SCL2, 21 TXD/MISO/SDA2, 22 GND, 23 RTS/SCS, 24 CTS/SCLK

## SIM900
designator SIM900  (value not drawn)
pins: 1 PWRKEY, 2 PWRKEY-OUT, 3 DTR, 4 RI, 5 DCD, 6 DSR, 7 CTS, 8 RTS, 9 TXD, 10 RXD, 11 DISP-CLK, 12 DISP-DATA, 13 DISP-D/C, 14 DISP-CS, 15 VDD-EXT, 16 NRESET, 17 GND, 18 GND, 19 MIC-P, 20 MIC-N, 21 SPK-P, 22 SPK-N, 23 LINEIN-R, 24 LINEIN-L, 25 ADC, 26 VRTC, 27 DBG-TXD, 28 DBG-RXD, 29 GND, 30 SIM-VDD, 31 SIM-DATA, 32 SIM-CLK, 33 SIM-RST, 34 SIM-PRESENCE, 35 PWM1, 36 PWM2, 37 SDA, 38 SCL, 39 GND, 40 GPIO1/KBR4, 41 GPIO2/KBR3, 42 GPIO3/KBR2, 43 GPIO4/KBR1, 44 GPIO5/KBR0, 45 GND, 46 GND, 47 GPIO6/KBC4, 48 GPIO7/KBC3, 49 GPIO8/KBC2, 50 GPIO9/KBC1, 51 GPIO10/KBC0, 52 NETLIGHT, 53 GND, 54 GND, 55 VBAT, 56 VBAT, 57 VBAT, 58 GND, 59 GND(ANT), 60 RF-ANT, 61 GND(ANT), 62 GND, 63 GND, 64 GND, 65 GND, 66 STATUS, 67 GPIO11, 68 GPIO12

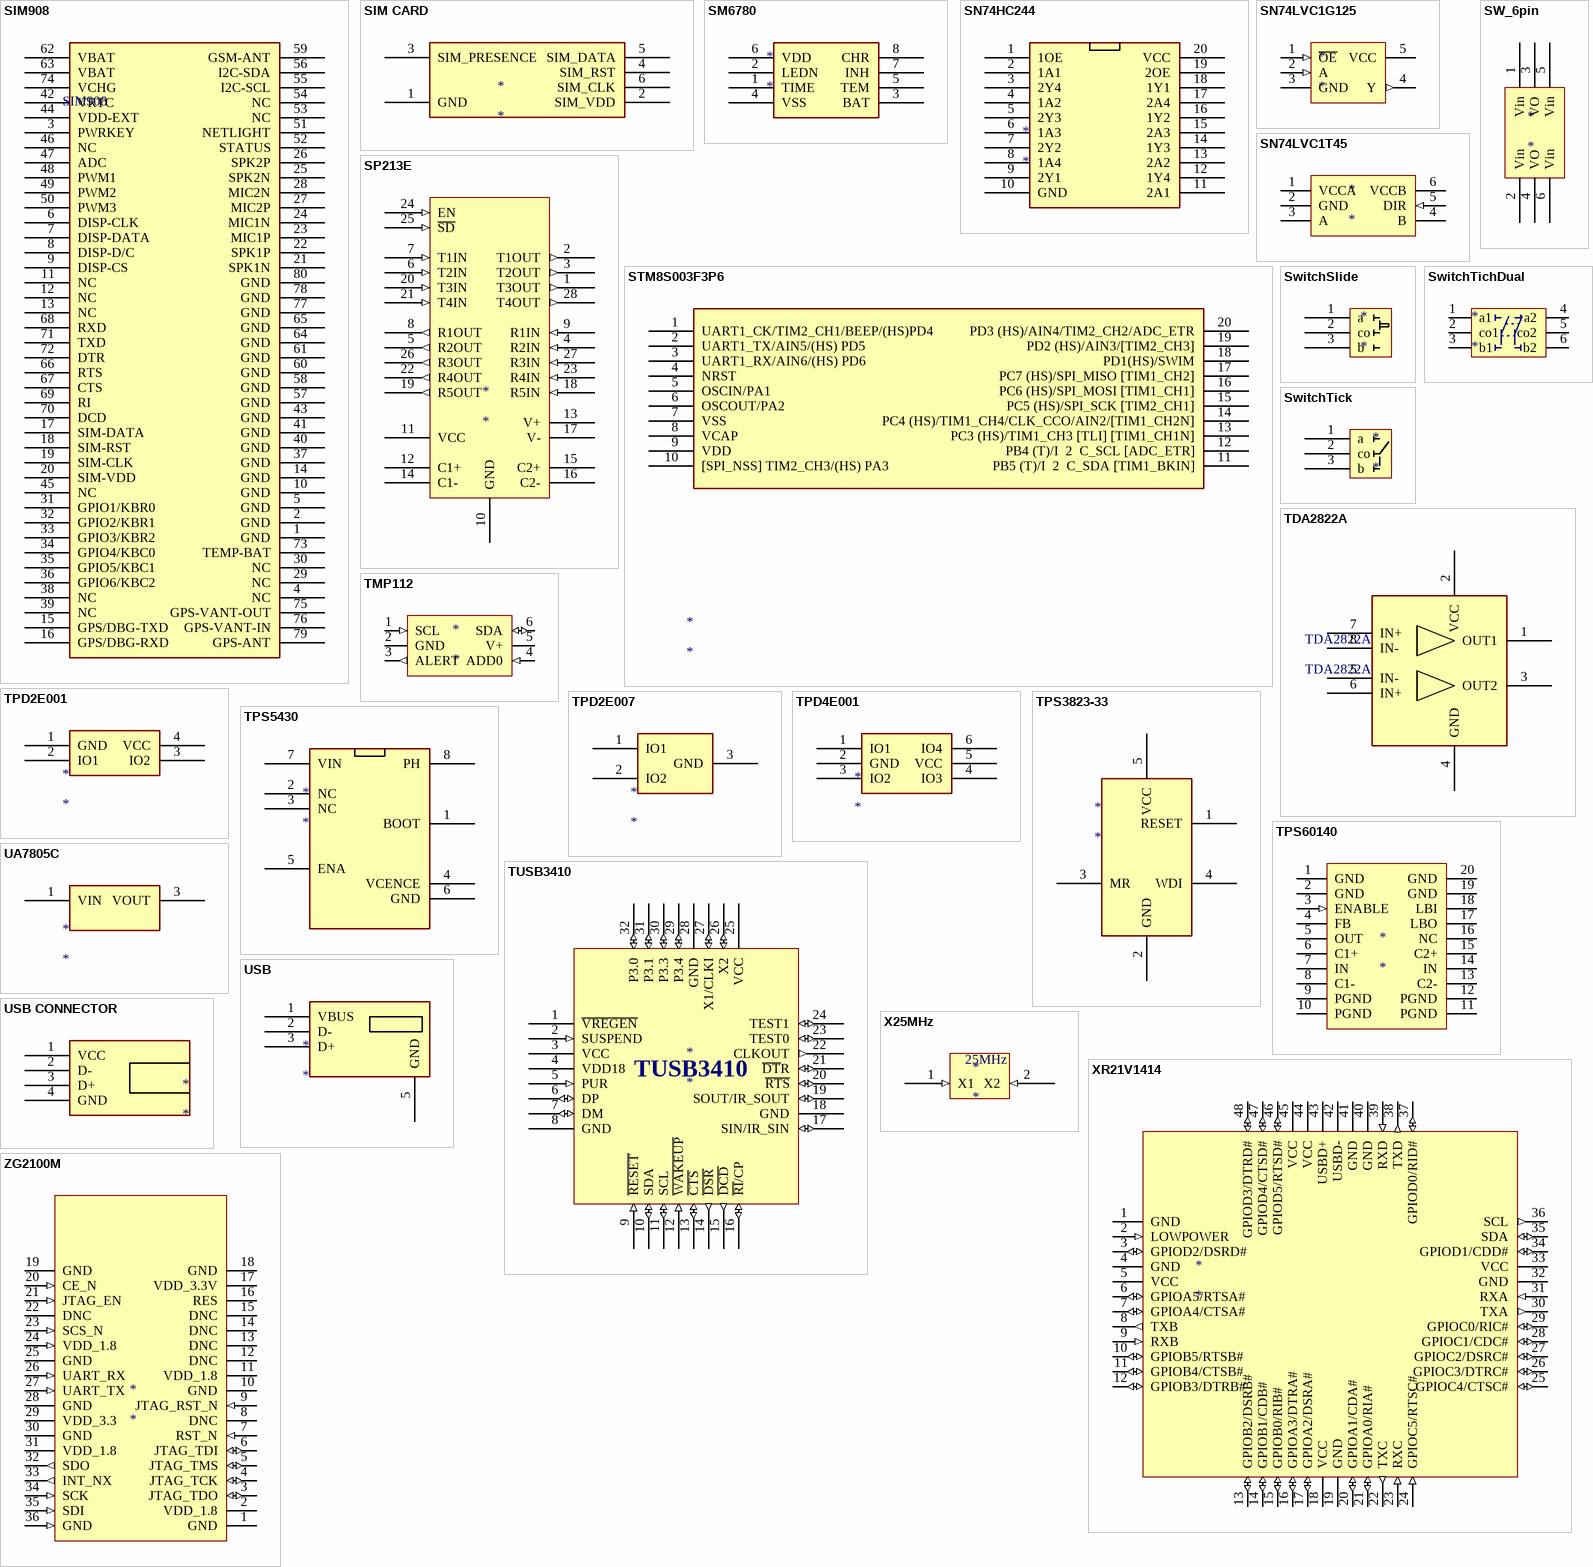
[diagram p4: symbols SIM908 to ZG2100M]

## SIM908
designator SIM908  (value not drawn)
pins: 1 GND, 2 GND, 3 PWRKEY, 4 NC, 5 GND, 6 DISP-CLK, 7 DISP-DATA, 8 DISP-D/C, 9 DISP-CS, 10 GND, 11 NC, 12 NC, 13 NC, 14 GND, 15 GPS/DBG-TXD, 16 GPS/DBG-RXD, 17 SIM-DATA, 18 SIM-RST, 19 SIM-CLK, 20 SIM-VDD, 21 SPK1N, 22 SPK1P, 23 MIC1P, 24 MIC1N, 25 SPK2N, 26 SPK2P, 27 MIC2P, 28 MIC2N, 29 NC, 30 NC, 31 GPIO1/KBR0, 32 GPIO2/KBR1, 33 GPIO3/KBR2, 34 GPIO4/KBC0, 35 GPIO5/KBC1, 36 GPIO6/KBC2, 37 GND, 38 NC, 39 NC, 40 GND, 41 GND, 42 VRTC, 43 GND, 44 VDD-EXT, 45 NC, 46 NC, 47 ADC, 48 PWM1, 49 PWM2, 50 PWM3, 51 NETLIGHT, 52 STATUS, 53 NC, 54 NC, 55 I2C-SCL, 56 I2C-SDA, 57 GND, 58 GND, 59 GSM-ANT, 60 GND, 61 GND, 62 VBAT, 63 VBAT, 64 GND, 65 GND, 66 RTS, 67 CTS, 68 RXD, 69 RI, 70 DCD, 71 TXD, 72 DTR, 73 TEMP-BAT, 74 VCHG, 75 GPS-VANT-OUT, 76 GPS-VANT-IN, 77 GND, 78 GND, 79 GPS-ANT, 80 GND

## SIM CARD
designator *
pins: 1 GND, 2 SIM_VDD, 3 SIM_PRESENCE, 4 SIM_RST, 5 SIM_DATA, 6 SIM_CLK

## SM6780
designator *
pins: 1 TIME, 2 LEDN, 3 BAT, 4 VSS, 5 TEM, 6 VDD, 7 INH, 8 CHR

## SN74HC244
designator *
pins: 1 1OE, 2 1A1, 3 2Y4, 4 1A2, 5 2Y3, 6 1A3, 7 2Y2, 8 1A4, 9 2Y1, 10 GND, 11 2A1, 12 1Y4, 13 2A2, 14 1Y3, 15 2A3, 16 1Y2, 17 2A4, 18 1Y1, 19 2OE, 20 VCC

## SN74LVC1G125
designator *
footprint SOT95P245X110-5N (SOT23, 5-Leads, Body 3.0x2.6mm (max), Pitch 0.95mm, IPC Medium Density)
pins: 1 ~{OE} (in), 2 A (in), 3 GND (power), 4 Y (out), 5 VCC (power)

## SN74LVC1T45
designator *
footprint SOT23127P600-8N
pins: 1 VCCA (power), 2 GND (power), 3 A (power), 4 B (power), 5 DIR (in), 6 VCCB (power)

## SP213E
designator *
footprint SOP65P780X200-28N (SOP, 28-Leads, Body 10.2x5.3mm (max), Pitch 0.65mm, IPC Medium Density)
pins: 1 T3OUT (out), 2 T1OUT (out), 3 T2OUT (out), 4 R2IN (in), 5 R2OUT (out), 6 T2IN (in), 7 T1IN (in), 8 R1OUT (out), 9 R1IN (in), 10 GND (power), 11 VCC (power), 12 C1+ (power), 13 V+ (power), 14 C1- (power), 15 C2+ (power), 16 C2- (power), 17 V- (power), 18 R5IN (in), 19 R5OUT (out), 20 T3IN (in), 21 T4IN (in), 22 R4OUT (out), 23 R4IN (in), 24 EN (in), 25 ~{SD} (in), 26 R3OUT (out), 27 R3IN (in), 28 T4OUT (out)

## STM8S003F3P6
designator *
footprint TSSOP20 (Shrink Small Outline; 20 Leads; Body Width 4.4 mm; Pitch 0.65 mm)
pins: 1 UART1_CK/TIM2_CH1/BEEP/(HS)PD4, 2 UART1_TX/AIN5/(HS) PD5, 3 UART1_RX/AIN6/(HS) PD6, 4 NRST, 5 OSCIN/PA1, 6 OSCOUT/PA2, 7 VSS, 8 VCAP, 9 VDD, 10 [SPI_NSS] TIM2_CH3/(HS) PA3, 11 PB5 (T)/I  2  C_SDA [TIM1_BKIN], 12 PB4 (T)/I  2  C_SCL [ADC_ETR], 13 PC3 (HS)/TIM1_CH3 [TLI] [TIM1_CH1N], 14 PC4 (HS)/TIM1_CH4/CLK_CCO/AIN2/[TIM1_CH2N], 15 PC5 (HS)/SPI_SCK [TIM2_CH1], 16 PC6 (HS)/SPI_MOSI [TIM1_CH1], 17 PC7 (HS)/SPI_MISO [TIM1_CH2], 18 PD1(HS)/SWIM, 19 PD2 (HS)/AIN3/[TIM2_CH3], 20 PD3 (HS)/AIN4/TIM2_CH2/ADC_ETR

## SW_6pin
designator *
footprint SW6pin
pins: 1 Vin (power), 2 Vin (power), 3 VO (power), 4 VO (power), 5 Vin (power), 6 Vin (power)

## SwitchSlide
designator *
footprint SwitchSlide_T
footprint SwitchSlide_SMD
pins: 1 a (power), 2 co (power), 3 b (power)

## SwitchTichDual
designator *
footprint SwitchTickDual
pins: 1 a1 (power), 2 co1 (power), 3 b1 (power), 4 a2 (power), 5 co2 (power), 6 b2 (power)

## SwitchTick
designator *
footprint SwitchTick
pins: 1 a (power), 2 co (power), 3 b (power)

## TDA2822A
designator TDA2822A
pins: 1 OUT1, 2 VCC, 3 OUT2, 4 GND, 5 IN-, 6 IN+, 7 IN+, 8 IN-

## TMP112
designator *
footprint SOT23127P600-8N TMP112 (Footpin of TMP112)
pins: 1 SCL (in), 2 GND (power), 3 ALERT (out), 4 ADD0 (in), 5 V+ (power), 6 SDA (io)

## TPD2E001
designator *
pins: 1 GND, 2 IO1, 3 IO2, 4 VCC

## TPD2E007
designator *
pins: 1 IO1, 2 IO2, 3 GND

## TPD4E001
designator *
pins: 1 IO1, 2 GND, 3 IO2, 4 IO3, 5 VCC, 6 IO4

## TPS3823-33
designator *
pins: 1 RESET, 2 GND, 3 MR, 4 WDI, 5 VCC

## TPS5430
designator *
pins: 1 BOOT, 2 NC, 3 NC, 4 VCENCE, 5 ENA, 6 GND, 7 VIN, 8 PH

## TPS60140
designator *
footprint TSOP65P640X120_HS-20N (TSOP, 20-Leads, Body 6.6x4.5mm (max), Pitch 0.65mm, IPC Medium Density)
pins: 1 GND (power), 2 GND (power), 3 ENABLE (in), 4 FB (power), 5 OUT (power), 6 C1+ (power), 7 IN (power), 8 C1- (power), 9 PGND (power), 10 PGND (power), 11 PGND (power), 12 PGND (power), 13 C2- (power), 14 IN (power), 15 C2+ (power), 16 NC (power), 17 LBO (power), 18 LBI (power), 19 GND (power), 20 GND (power)

## TUSB3410
designator *
footprint TQFP80P920X920X160-32N (TQFP, 32-Leads, Body 9.2x9.2mm (max), Pitch 0.80mm, IPC Medium Density)
pins: 1 ~{VREGEN} (power), 2 SUSPEND (in), 3 VCC (power), 4 VDD18 (power), 5 PUR (in), 6 DP (io), 7 DM (io), 8 GND (power), 9 ~{RESET} (in), 10 SDA (io), 11 SCL (io), 12 ~{WAKEUP} (in), 13 ~{CTS} (io), 14 ~{DSR} (out), 15 ~{DCD} (out), 16 ~{RI}/CP (io), 17  SIN/IR_SIN (io), 18 GND (power), 19 SOUT/IR_SOUT (io), 20 ~{RTS} (io), 21 ~{DT}R (io), 22 CLKOUT (out), 23 TEST0 (io), 24 TEST1 (io), 25 VCC (power), 26 X2 (io), 27 X1/CLKI (io), 28 GND (power), 29 P3.4 (io), 30 P3.3 (io), 31 P3.1 (io), 32 P3.0 (io)

## UA7805C
designator *
pins: 1 VIN, 2 GND hidden to GND, 3 VOUT

## USB
designator *
pins: 1 VBUS, 2 D-, 3 D+, 4 NC hidden, 5 GND

## USB CONNECTOR
designator *
pins: 1 VCC, 2 D-, 3 D+, 4 GND

## X25MHz
designator *
footprint X25MHz
pins: 1 X1 (in), 2 X2 (in)
text: 25MHz

## XR21V1414
designator *
footprint TSQFP50P920X920X120-48L (TSQFP, 48-Leads, Body 9.2x9.2mm (max), Pitch 0.50mm, IPC High Density)
pins: 1 GND (power), 2 LOWPOWER (in), 3 GPIOD2/DSRD# (io), 4 GND (power), 5 VCC (power), 6 GPIOA5/RTSA# (io), 7 GPIOA4/CTSA# (io), 8 TXB (out), 9 RXB (in), 10 GPIOB5/RTSB# (io), 11 GPIOB4/CTSB# (io), 12 GPIOB3/DTRB# (io), 13 GPIOB2/DSRB# (io), 14 GPIOB1/CDB# (io), 15 GPIOB0/RIB# (io), 16 GPIOA3/DTRA# (io), 17 GPIOA2/DSRA# (io), 18 VCC (power), 19 GND (power), 20 GPIOA1/CDA# (io), 21 GPIOA0/RIA# (io), 22 TXC (out), 23 RXC (in), 24 GPIOC5/RTSC# (in), 25 GPIOC4/CTSC# (io), 26 GPIOC3/DTRC# (io), 27 GPIOC2/DSRC# (io), 28 GPIOC1/CDC# (io), 29 GPIOC0/RIC# (io), 30 TXA (out), 31 RXA (in), 32 GND (power), 33 VCC (power), 34 GPIOD1/CDD# (io), 35 SDA (io), 36 SCL (out), 37 GPIOD0/RID# (io), 38 TXD (out), 39 RXD (in), 40 GND (power), 41 GND (power), 42 USBD- (power), 43 USBD+ (power), 44 VCC (power), 45 VCC (power), 46 GPIOD5/RTSD# (io), 47 GPIOD4/CTSD# (io), 48 GPIOD3/DTRD# (io)

## ZG2100M
designator *
footprint ZG2100M (WIFI module)
pins: 1 GND (power), 2 VDD_1.8 (power), 3 JTAG_TDO (io), 4 JTAG_TCK (io), 5 JTAG_TMS (io), 6 JTAG_TDI (io), 7 RST_N (in), 8 DNC (power), 9 JTAG_RST_N (in), 10 GND (power), 11 VDD_1.8 (power), 12 DNC (power), 13 DNC (power), 14 DNC (power), 15 DNC (power), 16 RES (power), 17 VDD_3.3V (power), 18 GND (power), 19 GND (power), 20 CE_N (in), 21 JTAG_EN (in), 22 DNC (power), 23 SCS_N (in), 24 VDD_1.8 (in), 25 GND (power), 26 UART_RX (in), 27 UART_TX (in), 28 GND (power), 29 VDD_3.3 (power), 30 GND (power), 31 VDD_1.8 (power), 32 SDO (out), 33 INT_NX (out), 34 SCK (in), 35 SDI (in), 36 GND (in)